# EAGLE library part TEL3 (library @Club_convertisseurs_CC_CC)
Traco Power TEL 3-1222 Vin : 9.0V to 18.0V Vout : +/-12V output : 125mA version corrigée :-)
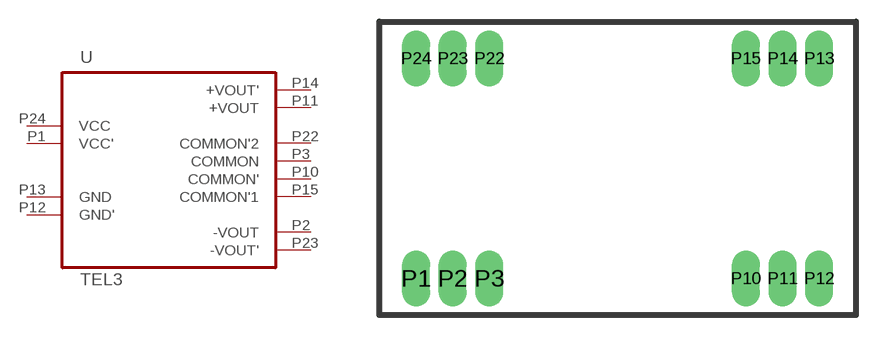
[diagram p1: symbol with the pads of TEL3; footprint TEL3]

Designator prefix U

## TEL3  [TEL3]
P1  VCC'  pwr
P2  -VOUT  out
P3  COMMON  out
P10  COMMON'  out
P11  +VOUT  out
P12  GND'  pwr
P13  GND  pwr
P14  +VOUT'  out
P15  COMMON'1  out
P22  COMMON'2  out
P23  -VOUT'  out
P24  VCC  pwr

## Footprint TEL3 (pad centres in mm)
TEL3 Footprint for 3W isolated DC/DC modules from Traco Power TEL3 range and equivalent
drill 0.8 pad 1.93 long: P1 -13.97,-7.62; P2 -11.43,-7.62; P3 -8.89,-7.62; P10 8.89,-7.62; P11 11.43,-7.62; P12 13.97,-7.62; P13 13.97,7.62; P14 11.43,7.62; P15 8.89,7.62; P22 -8.89,7.62; P23 -11.43,7.62; P24 -13.97,7.62